# EAGLE library part 8831E-100-170L (library KEL)
CONN RCPT 1.27MM 100POS GOLD PCB
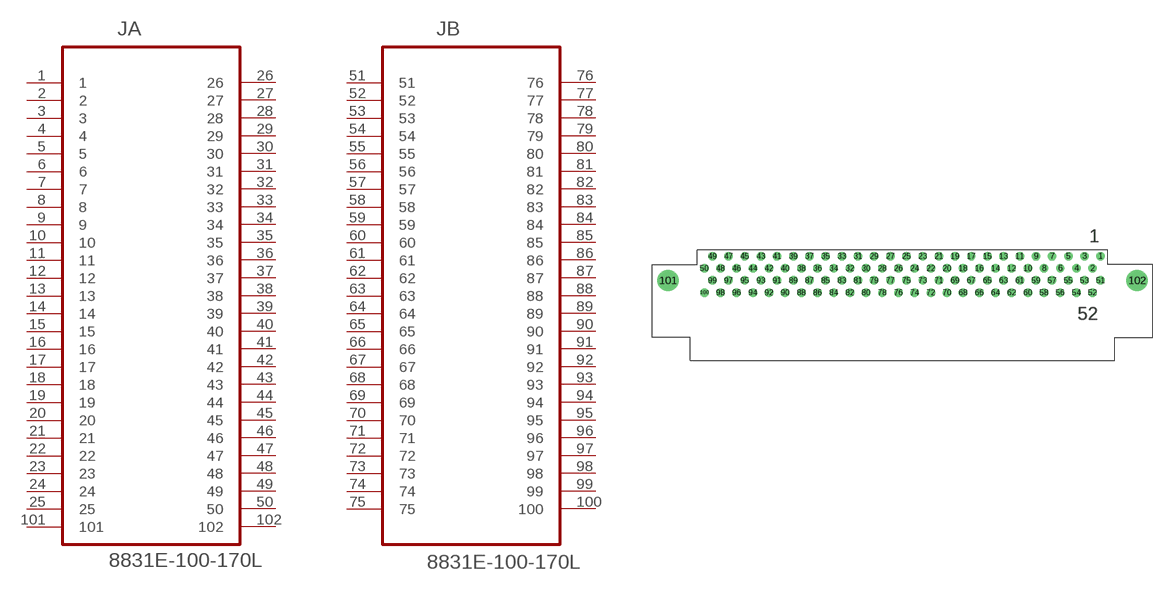
[diagram p0: symbol with the pads of KEL_8831E-100-170L; footprint KEL_8831E-100-170L]

Designator prefix J; gates A=8831E-100-170L_A B=8831E-100-170L_B

## 8831E-100-170L (DESCRIPTION: CONN-100POS; MPN: KEL_8831E-100-170L; ROHS: Yes; SUPPLIER: KEL)  [KEL_8831E-100-170L]
1  A:1  pas
2  A:2  pas
3  A:3  pas
4  A:4  pas
5  A:5  pas
6  A:6  pas
7  A:7  pas
8  A:8  pas
9  A:9  pas
10  A:10  pas
11  A:11  pas
12  A:12  pas
13  A:13  pas
14  A:14  pas
15  A:15  pas
16  A:16  pas
17  A:17  pas
18  A:18  pas
19  A:19  pas
20  A:20  pas
21  A:21  pas
22  A:22  pas
23  A:23  pas
24  A:24  pas
25  A:25  pas
26  A:26  pas
27  A:27  pas
28  A:28  pas
29  A:29  pas
30  A:30  pas
31  A:31  pas
32  A:32  pas
33  A:33  pas
34  A:34  pas
35  A:35  pas
36  A:36  pas
37  A:37  pas
38  A:38  pas
39  A:39  pas
40  A:40  pas
41  A:41  pas
42  A:42  pas
43  A:43  pas
44  A:44  pas
45  A:45  pas
46  A:46  pas
47  A:47  pas
48  A:48  pas
49  A:49  pas
50  A:50  pas
51  B:51  pas
52  B:52  pas
53  B:53  pas
54  B:54  pas
55  B:55  pas
56  B:56  pas
57  B:57  pas
58  B:58  pas
59  B:59  pas
60  B:60  pas
61  B:61  pas
62  B:62  pas
63  B:63  pas
64  B:64  pas
65  B:65  pas
66  B:66  pas
67  B:67  pas
68  B:68  pas
69  B:69  pas
70  B:70  pas
71  B:71  pas
72  B:72  pas
73  B:73  pas
74  B:74  pas
75  B:75  pas
76  B:76  pas
77  B:77  pas
78  B:78  pas
79  B:79  pas
80  B:80  pas
81  B:81  pas
82  B:82  pas
83  B:83  pas
84  B:84  pas
85  B:85  pas
86  B:86  pas
87  B:87  pas
88  B:88  pas
89  B:89  pas
90  B:90  pas
91  B:91  pas
92  B:92  pas
93  B:93  pas
94  B:94  pas
95  B:95  pas
96  B:96  pas
97  B:97  pas
98  B:98  pas
99  B:99  pas
100  B:100  pas
101  A:101  pas
102  A:102  pas

## Footprint KEL_8831E-100-170L (pad centres in mm)
drill 0.813: 1 31.115,3.81; 2 29.845,1.905; 3 28.575,3.81; 4 27.305,1.905; 5 26.035,3.81; 6 24.765,1.905; 7 23.495,3.81; 8 22.225,1.905; 9 20.955,3.81; 10 19.685,1.905; 11 18.415,3.81; 12 17.145,1.905; 13 15.875,3.81; 14 14.605,1.905; 15 13.335,3.81; 16 12.065,1.905; 17 10.795,3.81; 18 9.525,1.905; 19 8.255,3.81; 20 6.985,1.905; 21 5.715,3.81; 22 4.445,1.905; 23 3.175,3.81; 24 1.905,1.905; 25 0.635,3.81; 26 -0.635,1.905; 27 -1.905,3.81; 28 -3.175,1.905; 29 -4.445,3.81; 30 -5.715,1.905; 31 -6.985,3.81; 32 -8.255,1.905; 33 -9.525,3.81; 34 -10.795,1.905; 35 -12.065,3.81; 36 -13.335,1.905; 37 -14.605,3.81; 38 -15.875,1.905; 39 -17.145,3.81; 40 -18.415,1.905; 41 -19.685,3.81; 42 -20.955,1.905; 43 -22.225,3.81; 44 -23.495,1.905; 45 -24.765,3.81; 46 -26.035,1.905; 47 -27.305,3.81; 48 -28.575,1.905; 49 -29.845,3.81; 50 -31.115,1.905; 51 31.115,0; 52 29.845,-1.905; 53 28.575,0; 54 27.305,-1.905; 55 26.035,0; 56 24.765,-1.905; 57 23.495,0; 58 22.225,-1.905; 59 20.955,0; 60 19.685,-1.905; 61 18.415,0; 62 17.145,-1.905; 63 15.875,0; 64 14.605,-1.905; 65 13.335,0; 66 12.065,-1.905; 67 10.795,0; 68 9.525,-1.905; 69 8.255,0; 70 6.985,-1.905; 71 5.715,0; 72 4.445,-1.905; 73 3.175,0; 74 1.905,-1.905; 75 0.635,0; 76 -0.635,-1.905; 77 -1.905,0; 78 -3.175,-1.905; 79 -4.445,0; 80 -5.715,-1.905; 81 -6.985,0; 82 -8.255,-1.905; 83 -9.525,0; 84 -10.795,-1.905; 85 -12.065,0; 86 -13.335,-1.905; 87 -14.605,0; 88 -15.875,-1.905; 89 -17.145,0; 90 -18.415,-1.905; 91 -19.685,0; 92 -20.955,-1.905; 93 -22.225,0; 94 -23.495,-1.905; 95 -24.765,0; 96 -26.035,-1.905; 97 -27.305,0; 98 -28.575,-1.905; 99 -29.845,0; 100 -31.115,-1.905
drill 2.311: 101 -36.83,0; 102 36.83,0